# Altium footprint library PcbLibLukas_New.PcbLib: 31 footprints (part 1 of 2)
Each footprint in its own frame and in the unit in brackets; x right, y up, seen from the top. Pads: shape width x height; smd on the part's side, far side on the other; paste and mask are expansions set on the pad; w line width, h text height; cw(c..) or ccw(c..) is an arc to the next point about the centre after c.
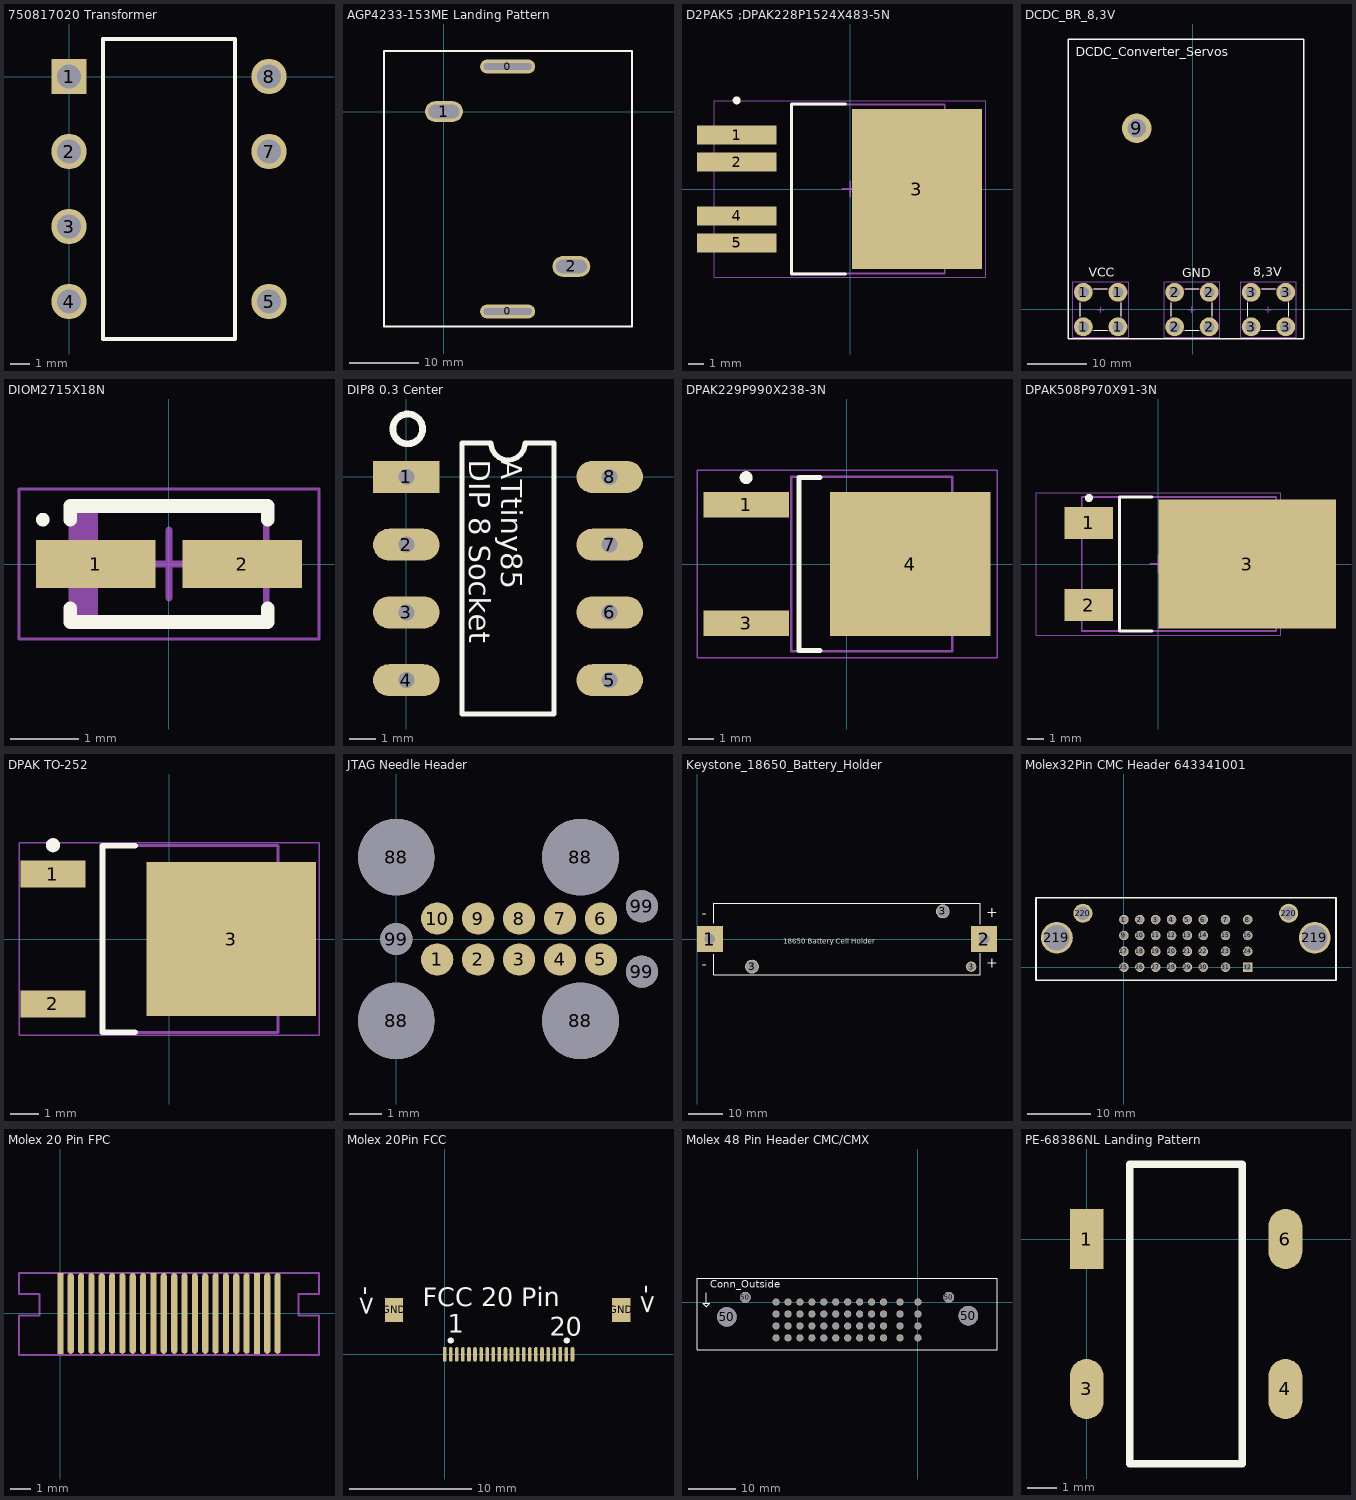
[diagram p0: the footprints below, top view; thin cyan lines are the x and y axes]

## 750817020 Transformer [mm]
pads (7):
  rect 1.8x1.8 hole 1.2: 1(0,0)
  round 1.8 hole 1.2: 2(0,-3.81) 3(0,-7.62) 4(0,-11.43) 5(10.16,-11.43) 7(10.16,-3.81) 8(10.16,0)
Top Overlay:
  lines w0.2: 1.735,-13.335 8.425,-13.335 8.425,1.905 6.032,1.905 1.735,1.905 1.735,-13.335

## AGP4233-153ME Landing Pattern [mm] "Coilcraft AGP4233 Series 6.8uH-150uH"
pads (4):
  oval 8x2 hole 1 slot 7 at 0 deg: 0(9.25,-29.03) 0(9.25,6.53)
  oval 5.5x3 hole 2 slot 4.5 at 0 deg: 1(0,0) 2(18.5,-22.5)
Top Overlay:
  lines w0.254: -8.7,-31.2 27.3,-31.2 27.3,8.8 -8.7,8.8 -8.7,-31.2

## D2PAK5 ;DPAK228P1524X483-5N [mm] "D2-PAK, 5-Pads, Body 7,93x8,70mm (max), IPC Medium Density"
height 4.83
pads (5):
  rect 5x1.2 smd: 1(-7.15,3.4) 2(-7.15,1.7) 4(-7.15,-1.7) 5(-7.15,-3.4)
  rect 8.2x10.1 smd: 3(4.2,0)
Top Overlay:
  circle w0.25: c-7.15,5.585 r0.125
  lines w0.2: -0.3,-5.35 -3.7,-5.35 -3.7,5.35 -0.3,5.35
Mechanical 13:
  lines w0.1: -3.7,-5.325 -3.7,5.325 5.95,5.325 5.95,-5.325 -3.7,-5.325
Mechanical 15:
  lines w0.05: -8.55,-5.575 -8.55,5.575 8.55,5.575 8.55,-5.575 -8.55,-5.575
  lines w0.1: -0.5,0 0.5,0 ; 0,-0.5 0,0.5
3D body "D2PAK5 ;DPAK228P1524X483-5N.step": height 4.83, standoff 0, extent -7.505,-5.325 7.74,5.325

## DCDC_BR_8,3V [mm]
pads (13):
  round 3.2 hole 1.85: 1(-18.58,-3.001) 1(-18.58,2.869) 1(-12.71,-3.001) 1(-12.71,2.869) 2(-3.08,-3.001) 2(-3.08,2.869) 2(2.79,-3.001) 2(2.79,2.869) 3(9.92,-3.001) 3(9.92,2.869) 3(15.79,-3.001) 3(15.79,2.869)
  round 5 hole 3.1: 9(-9.525,30.734)
Top Overlay:
  lines w0.2: -19.145,-1.216 -19.145,1.084 ; -16.795,-3.566 -14.495,-3.566 ; -16.795,3.434 -14.495,3.434 ; -12.145,-1.216 -12.145,1.084 ; -3.645,-1.216 -3.645,1.084 ; -1.295,-3.566 1.005,-3.566 ; -1.295,3.434 1.005,3.434 ; 3.355,-1.216 3.355,1.084 ; 9.355,-1.216 9.355,1.084 ; 11.705,-3.566 14.005,-3.566 ; 11.705,3.434 14.005,3.434 ; 16.355,-1.216 16.355,1.084
  lines w0.254: -21.145,-5.066 -21.145,44.934 -21.145,45.905 17.884,45.905 18.845,45.905 18.85,45.9 18.85,44.939 18.855,44.934 18.855,-5.066 -21.145,-5.066
  text "DCDC_Converter_Servos" at -19.846,42.958 h1.52
  text "8,3V" at 10.254,5.562 h1.52
  text "GND" at -1.796,5.454 h1.52
  text "VCC" at -17.646,5.504 h1.52
Top Paste:
  drawing of 12 lines, arcs and shapes, not listed
Mechanical 13:
  lines w0.1: -19.145,-3.566 -19.145,3.434 -12.145,3.434 -12.145,-3.566 -19.145,-3.566 ; -3.645,-3.566 -3.645,3.434 3.355,3.434 3.355,-3.566 -3.645,-3.566 ; 9.355,-3.566 9.355,3.434 16.355,3.434 16.355,-3.566 9.355,-3.566
Mechanical 15:
  lines w0.05: -16.145,-0.066 -15.145,-0.066 ; -15.645,-0.566 -15.645,0.434 ; -0.645,-0.066 0.355,-0.066 ; -0.145,-0.566 -0.145,0.434 ; 12.355,-0.066 13.355,-0.066 ; 12.855,-0.566 12.855,0.434 ; -20.38,-4.801 -20.38,4.669 -10.91,4.669 -10.91,-4.801 -20.38,-4.801 ; -4.88,-4.801 -4.88,4.669 4.59,4.669 4.59,-4.801 -4.88,-4.801 ; 8.12,-4.801 8.12,4.669 17.59,4.669 17.59,-4.801 8.12,-4.801
3D body "74651173.stp": height 8.5, standoff -2.5, extent 9.355,-3.566 16.355,3.434
3D body "74651173.stp": height 8.5, standoff -2.5, extent -19.145,-3.566 -12.145,3.434
3D body "74651173.stp": height 8.5, standoff -2.5, extent -3.645,-3.566 3.355,3.434
3D body "DCDC_Model.stp": height 19, standoff 0.88, extent -21.136,-4.4 19.036,45.61

## DIOM2715X18N [mm] "Molded Diode, 2-Leads, Body 2,70x1,55mm, IPC Medium Density"
height 1.8
pads (2):
  rect 1.75x0.7 smd: 1(-1.075,0) 2(1.075,0)
Top Overlay:
  circle w0.1: c-1.85,0.65 r0.05
  lines w0.2: -1.45,-0.65 -1.45,-0.85 1.45,-0.85 1.45,-0.65 ; -1.45,0.65 -1.45,0.85 1.45,0.85 1.45,0.65
Mechanical 13:
  rectangle: -1.425,-0.85 -1.042,0.85
  lines w0.1: -1.425,-0.85 -1.425,0.85 1.425,0.85 1.425,-0.85 -1.425,-0.85
Mechanical 15:
  lines w0.05: -2.2,-1.1 -2.2,1.1 2.2,1.1 2.2,-1.1 -2.2,-1.1
  lines w0.1: -0.5,0 0.5,0 ; 0,-0.5 0,0.5
3D body "DIOM2715X18N.step": height 1.8, standoff 0, extent -1.645,-0.85 1.645,0.85

## DIP8 0.3 Center [mm]
pads (8):
  rect 2.5x1.2 hole 0.6: 1(0,0)
  oval 2.5x1.2 hole 0.6: 2(0,-2.54) 3(0,-5.08) 4(0,-7.62) 5(7.62,-7.62) 6(7.62,-5.08) 7(7.62,-2.54) 8(7.62,0)
Top Overlay:
  circle w0.254: c0.05,1.8 r0.559
  lines w0.2: 2.085,-8.89 2.085,1.27 3.175,1.27 ccw(c3.81,1.27) 4.445,1.27 5.535,1.27 5.535,-8.89 2.085,-8.89
  text "ATtiny85  / DIP 8 Socket" at 2.35,0.65 h0.8

## DPAK229P990X238-3N [mm] "D-PAK, 3-Pads, Body 6,21x6,73mm (max), IPC Medium Density"
height 2.38
pads (3):
  rect 3.3x1 smd: 1(-3.9,2.29) 3(-3.9,-2.29)
  rect 6.2x5.55 smd: 4(2.45,0)
Top Overlay:
  circle w0.25: c-3.9,3.34 r0.125
  lines w0.2: -1.05,-3.35 -1.85,-3.35 -1.85,3.35 -1.05,3.35
Mechanical 13:
  lines w0.1: -2.15,-3.375 -2.15,3.375 4.07,3.375 4.07,-3.375 -2.15,-3.375
Mechanical 15:
  lines w0.05: -5.8,-3.625 -5.8,3.625 5.8,3.625 5.8,-3.625 -5.8,-3.625
  lines w0.1: -0.5,0 0.5,0 ; 0,-0.5 0,0.5
3D body: height 2.38, standoff 0.13, extent -2.15,-3.375 4.07,3.375

## DPAK508P970X91-3N [mm] "D-PAK, 3-Pads, Body 9,10x7,51mm (max), IPC Medium Density"
height 0.91
pads (3):
  rect 3x2 smd: 1(-4.3,2.54) 2(-4.3,-2.54)
  rect 11x8 smd: 3(5.5,0)
Top Overlay:
  circle w0.25: c-4.3,4.09 r0.125
  lines w0.2: -0.4,-4.15 -2.4,-4.15 -2.4,4.15 -0.4,4.15
Mechanical 13:
  lines w0.1: -4.75,-4.15 -4.75,-2.075 -4.75,2.075 -4.75,4.15 -2.7,4.15 7.3,4.15 7.3,2.075 7.3,-2.075 7.3,-4.15 -2.7,-4.15 -4.75,-4.15
Mechanical 15:
  lines w0.05: -7.575,-4.4 -7.575,4.4 7.575,4.4 7.575,-4.4 -7.575,-4.4
  lines w0.1: -0.5,0 0.5,0 ; 0,-0.5 0,0.5
3D body: height 0.91, standoff 0, extent -4.75,-4.15 7.25,4.15

## DPAK TO-252 [mm] "DPAK High density"
height 2.2
pads (3):
  rect 2.3x0.95 smd: 1(-4.1,2.29) 2(-4.1,-2.29)
  rect 6x5.45 smd: 3(2.2,0)
Top Overlay:
  circle w0.25: c-4.1,3.315 r0.125
  lines w0.2: -1.2,-3.3 -2.35,-3.3 -2.35,3.3 -1.2,3.3
Mechanical 13:
  lines w0.1: -2.35,-3.3 -2.35,3.3 3.85,3.3 3.85,-3.3 -2.35,-3.3
Mechanical 15:
  lines w0.05: -5.3,-3.4 -5.3,3.4 5.3,3.4 5.3,-3.4 -5.3,-3.4
  lines w0.1: -0.5,0 0.5,0 ; 0,-0.5 0,0.5
3D body: height 2.4, standoff 2.2, extent -2.35,-3.3 3.85,3.3

## JTAG Needle Header [mm]
pads (17):
  round 1 all layers, no hole: 1(1.27,-0.635) 2(2.54,-0.635) 3(3.81,-0.635) 4(5.08,-0.635) 5(6.35,-0.635) 6(6.35,0.635) 7(5.08,0.635) 8(3.81,0.635) 9(2.54,0.635) 10(1.27,0.635)
  round 2.375 hole 2.375 unplated: 88(0,-2.54) 88(0,2.54) 88(5.715,-2.54) 88(5.715,2.54)
  round 1 hole 0.991 unplated: 99(0,0) 99(7.62,-1.015) 99(7.62,1.015)

## Keystone_18650_Battery_Holder [mm]
pads (5):
  rect 7.46x7.46 hole 3: 1(3.73,0) 2(83.07,0)
  round 4 hole 3.45: 3(15.92,-8) 3(71.12,8)
  round 3 hole 2.4: 3(79.34,-8)
Top Overlay:
  lines w0.254: 4.875,-4.475 4.875,-10.325 81.925,-10.325 81.925,-4.175 ; 4.875,4.525 4.875,10.325 81.925,10.325 81.925,4.275
  text "+" at 83.754,6.254 h3
  text "-" at 1.304,5.954 h3
  text "+" at 83.654,-8.296 h3
  text "-" at 1.404,-8.796 h3
  text "18650 Battery Cell Holder" at 25.004,-1.388 h1.52

## Molex32Pin CMC Header 643341001 [mm]
pads (36):
  round 1.5 hole 1.2: 1(0,7.5) 2(2.5,7.5) 3(5,7.5) 4(7.5,7.5) 5(10,7.5) 6(12.5,7.5) 7(16,7.5) 8(19.5,7.5) 9(0,5) 10(2.5,5) 11(5,5) 12(7.5,5) 13(10,5) 14(12.5,5) 15(16,5) 16(19.5,5) 17(0,2.5) 18(2.5,2.5) 19(5,2.5) 20(7.5,2.5) 21(10,2.5) 22(12.5,2.5) 23(16,2.5) 24(19.5,2.5) 25(0,0) 26(2.5,0) 27(5,0) 28(7.5,0) 29(10,0) 30(12.5,0) 31(16,0)
  rect 1.5x1.5 hole 1.2: 32(19.5,0)
  round 5 hole 4: 219(-10.55,4.65) 219(30.05,4.65)
  round 3 hole 2.2: 220(-6.45,8.5) 220(25.95,8.5)
Top Overlay:
  lines w0.254: -13.843,-2.032 -13.843,10.922 33.401,10.922 33.401,-2.032 -13.843,-2.032

## Molex 20 Pin FPC [mm]
pads (22):
  oval 0.3x3.9 smd: 1(0.5,0) 2(1,0) 3(1.5,0) 4(2,0) 5(2.5,0) 6(3,0) 7(3.5,0) 8(4,0) 10(5,0) 11(5.5,0) 12(6,0) 13(6.5,0) 14(7,0) 15(7.5,0) 16(8,0) 17(8.5,0) 18(9,0) 20(10,0) GND(10.5,0)
  rect 0.3x3.9 smd: 9(4.5,0) 19(9.5,0) GND(0,0)
Board Outline:
  lines w0.1: -2,-2 -2,-0.1 -1,-0.1 -1,0.95 -2,0.95 -2,1.95 0,1.95 10.5,1.95 12.5,1.95 12.5,0.95 11.5,0.95 11.5,-0.1 12.5,-0.1 12.5,-2 10.5,-2 0,-2 -2,-2

## Molex 20Pin FCC [mm]
pads (24):
  oval 0.3x1.2 smd: 1(0.5,0) 2(1,0) 3(1.5,0) 4(2,0) 5(2.5,0) 6(3,0) 7(3.5,0) 8(4,0) 10(5,0) 11(5.5,0) 12(6,0) 13(6.5,0) 14(7,0) 15(7.5,0) 16(8,0) 17(8.5,0) 18(9,0) 20(10,0) GND(10.5,0)
  rect 0.3x1.2 smd: 9(4.5,0) 19(9.5,0) GND(0,0)
  rect 1.5x2 all layers, no hole: GND(-4.15,3.65) GND(14.5,3.65)
Top Overlay:
  lines w0.254: 0.631,1.174 ccw(c0.508,1.143) 0.635,1.143 ; 10.156,1.174 ccw(c10.033,1.143) 10.16,1.143
  text "->" at 16.002,5.715 h1.52
  text "->" at -7.112,5.588 h1.52
  text "FCC 20 Pin" at -1.778,3.937 h1.52
  text "1" at 0.254,1.778 h1.52
  text "20" at 8.636,1.524 h1.52
3D body "2004850220.stp": height 4.48, standoff 0.02, extent -4.595,-0.375 15.095,5.825

## Molex 48 Pin Header CMC/CMX [mm]
pads (52):
  round 1.5 hole 1.3: 1(-29.7,0) 2(-27.2,0) 3(-24.7,0) 4(-22.2,0) 5(-19.7,0) 6(-17.2,0) 7(-14.7,0) 8(-12.2,0) 9(-9.7,0) 10(-7.2,0) 11(-3.75,0) 12(0,0) 13(-29.7,-2.5) 14(-27.2,-2.5) 15(-24.7,-2.5) 16(-22.2,-2.5) 17(-19.7,-2.5) 18(-17.2,-2.5) 19(-14.7,-2.5) 20(-12.2,-2.5) 21(-9.7,-2.5) 22(-7.2,-2.5) 23(-3.75,-2.5) 24(0,-2.5) 25(-29.7,-5) 26(-27.2,-5) 27(-24.7,-5) 28(-22.2,-5) 29(-19.7,-5) 30(-17.2,-5) 31(-14.7,-5) 32(-12.2,-5) 33(-9.7,-5) 34(-7.2,-5) 35(-3.75,-5) 36(0,-5) 37(-29.7,-7.5) 38(-27.2,-7.5) 39(-24.7,-7.5) 40(-22.2,-7.5) 41(-19.7,-7.5) 42(-17.2,-7.5) 43(-14.7,-7.5) 44(-12.2,-7.5) 45(-9.7,-7.5) 46(-7.2,-7.5) 47(-3.75,-7.5) 48(0,-7.5)
  round 4.1 hole 4.1: 50(-40,-3.1) 50(10.55,-2.85)
  round 2.3 hole 2.3: 50(-36.15,1) 50(6.45,1)
Top Overlay:
  lines w0.254: -44.3,2 -44.3,-0.25 ; -44.3,-0.25 -43.55,-0.25 -43.6,-0.25 -44.3,-0.95 -45,-0.25 -44.3,-0.25 ; -46.25,-10 16.55,-10 16.55,5 -46.25,5 -46.25,-10
  text "Conn_Outside" at -43.496,2.958 h1.52
3D body "5007621001_Tin.stp": height 33.65, standoff -9.53, extent -55.138,-47.05 25.438,2.05

## PE-68386NL Landing Pattern [mil]
pads (4):
  rect 45x80 smd: 1(0,0)
  oval 45x80 smd: 3(0,-200) 4(265,-200) 6(265,0)
Top Overlay:
  lines w10: 57.5,-300 207.5,-300 207.5,100 182.5,100 57.5,100 57.5,-300